# EAGLE library part 7-SEGMENT-DISPLAY (library SparkFun-paranoidstudio)
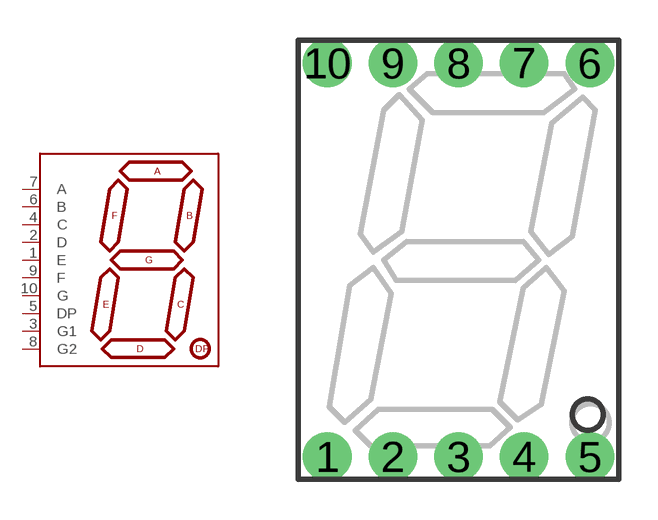
[diagram p185: symbol with the pads of 7-SEGMENT-DISPLAY; footprint 7-SEGMENT-DISPLAY]

Designator prefix -

## 7-SEGMENT-DISPLAYPTH  [7-SEGMENT-DISPLAY]
1  E
2  D
3  G1
4  C
5  DP
6  B
7  A
8  G2
9  F
10  G

## Footprint 7-SEGMENT-DISPLAY (pad centres in mm)
drill 0.65 pad 1.88 round: 1 -5.08,-7.62; 2 -2.54,-7.62; 3 0,-7.62; 4 2.54,-7.62; 5 5.08,-7.62; 6 5.08,7.62; 7 2.54,7.62; 8 0,7.62; 9 -2.54,7.62; 10 -5.08,7.62